# EAGLE library part GENIE-EDGE (library 8Bit_Parts)
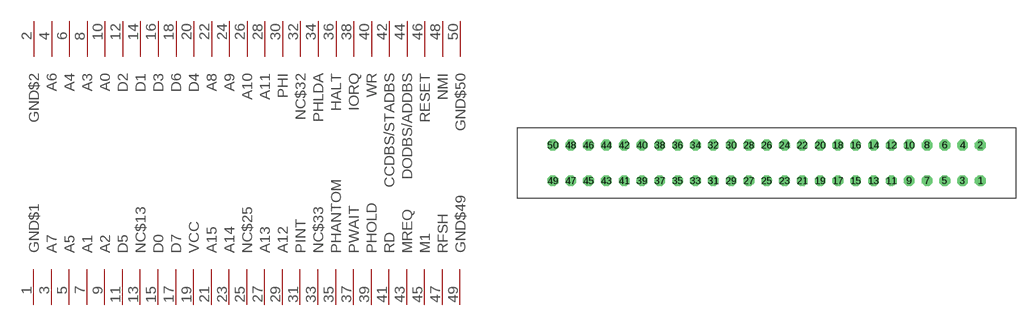
[diagram p20: symbol with the pads of GENIE-EDGE; footprint GENIE-EDGE]

Designator prefix -

## GENIE-EDGE  [GENIE-EDGE]
1  GND$1
2  GND$2
3  A7
4  A6
5  A5
6  A4
7  A1
8  A3
9  A2
10  A0
11  D5
12  D2
13  NC$13
14  D1
15  D0
16  D3
17  D7
18  D6
19  VCC
20  D4
21  A15
22  A8
23  A14
24  A9
25  NC$25
26  A10
27  A13
28  A11
29  A12
30  PHI
31  PINT
32  NC$32
33  NC$33
34  PHLDA
35  PHANTOM
36  HALT
37  PWAIT
38  IORQ
39  PHOLD
40  WR
41  RD
42  CCDBS/STADBS
43  MREQ
44  DODBS/ADDBS
45  M1
46  RESET
47  RFSH
48  NMI
49  GND$49
50  GND$50

## Footprint GENIE-EDGE (pad centres in mm)
drill 1.016 octagon: 1 30.48,-2.54; 2 30.48,2.54; 3 27.94,-2.54; 4 27.94,2.54; 5 25.4,-2.54; 6 25.4,2.54; 7 22.86,-2.54; 8 22.86,2.54; 9 20.32,-2.54; 10 20.32,2.54; 11 17.78,-2.54; 12 17.78,2.54; 13 15.24,-2.54; 14 15.24,2.54; 15 12.7,-2.54; 16 12.7,2.54; 17 10.16,-2.54; 18 10.16,2.54; 19 7.62,-2.54; 20 7.62,2.54; 21 5.08,-2.54; 22 5.08,2.54; 23 2.54,-2.54; 24 2.54,2.54; 25 0,-2.54; 26 0,2.54; 27 -2.54,-2.54; 28 -2.54,2.54; 29 -5.08,-2.54; 30 -5.08,2.54; 31 -7.62,-2.54; 32 -7.62,2.54; 33 -10.16,-2.54; 34 -10.16,2.54; 35 -12.7,-2.54; 36 -12.7,2.54; 37 -15.24,-2.54; 38 -15.24,2.54; 39 -17.78,-2.54; 40 -17.78,2.54; 41 -20.32,-2.54; 42 -20.32,2.54; 43 -22.86,-2.54; 44 -22.86,2.54; 45 -25.4,-2.54; 46 -25.4,2.54; 47 -27.94,-2.54; 48 -27.94,2.54; 49 -30.48,-2.54; 50 -30.48,2.54